# Altium schematic symbol library ELECTRODE.SchLib: 1 symbol
Pins are listed as number, name and electrical type; pins without a type are passive.

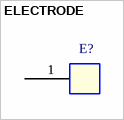
[diagram p0: symbol ELECTRODE]

## ELECTRODE
designator E?
CAPACITIVE SINGLE ELECTRODE 8MM SQUARE ROUNDED CORNERS, NO PART TO ORDER
pins: 1